# EAGLE library part LD39050_QFN6 (library jobygnss)
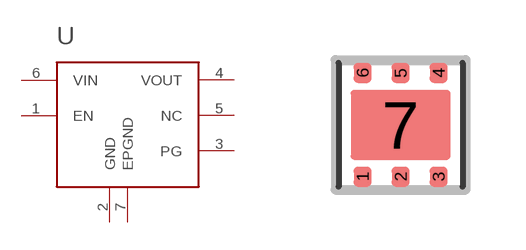
[diagram p7: symbol with the pads of LD39050_QFN6; footprint LD39050_QFN6]

Designator prefix U

## LD39050_QFN6  [LD39050_QFN6]
1  EN
2  GND
3  PG
4  VOUT
5  NC
6  VIN
7  EPGND

## Footprint LD39050_QFN6 (pad centres in mm)
smd 0.45 x 0.5: 1 -0.95,-1.3; 2 0,-1.3; 3 0.95,-1.3; 4 0.95,1.3; 5 0,1.3; 6 -0.95,1.3
smd 2.5 x 1.75: 7 0,0